# Altium schematic symbol library lib_raspberry.SchLib: 5 symbols
Pins are listed as number, name and electrical type; pins without a type are passive.

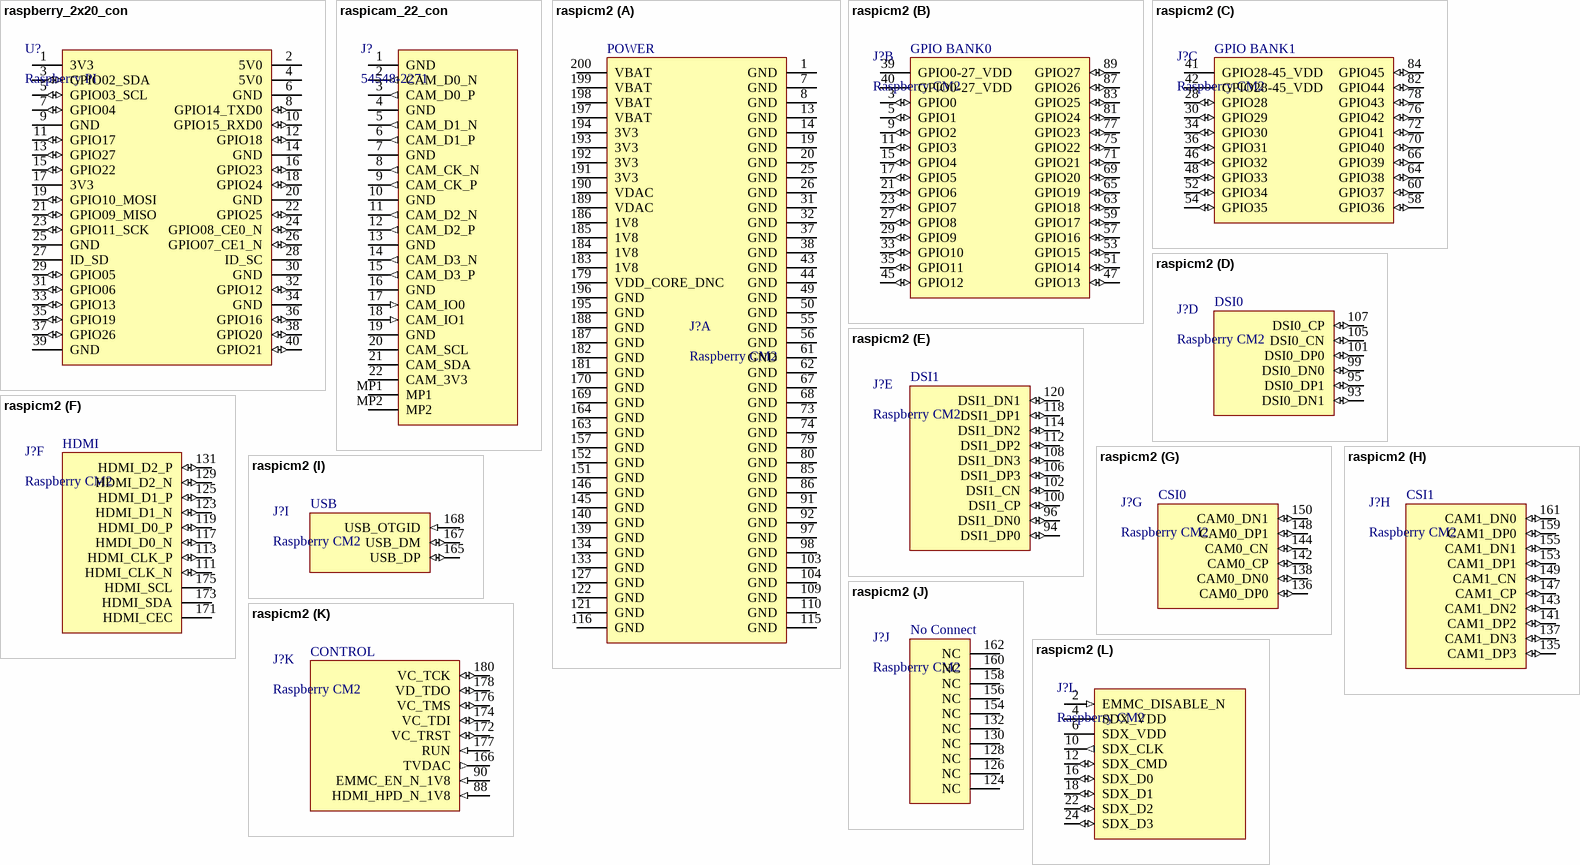
[diagram p0: symbols raspberry_2x20_con to raspicm2]

## raspberry_2x20_con
designator U?, comment Raspberry PI
Raspberry PI 2x20 connector
footprint raspi_male_con
pins: 1 3V3 (power), 2 5V0 (power), 3 GPIO02_SDA (io), 4 5V0 (power), 5 GPIO03_SCL (io), 6 GND (power), 7 GPIO04 (io), 8 GPIO14_TXD0 (io), 9 GND (power), 10 GPIO15_RXD0 (io), 11 GPIO17 (io), 12 GPIO18 (io), 13 GPIO27 (io), 14 GND (power), 15 GPIO22 (io), 16 GPIO23 (io), 17 3V3 (power), 18 GPIO24 (io), 19 GPIO10_MOSI (io), 20 GND (power), 21 GPIO09_MISO (io), 22 GPIO25 (io), 23 GPIO11_SCK (io), 24 GPIO08_CE0_N (io), 25 GND (power), 26 GPIO07_CE1_N (io), 27 ID_SD (oc), 28 ID_SC (oc), 29 GPIO05 (io), 30 GND (power), 31 GPIO06 (io), 32 GPIO12 (io), 33 GPIO13 (io), 34 GND (power), 35 GPIO19 (io), 36 GPIO16 (io), 37 GPIO26 (io), 38 GPIO20 (io), 39 GND (power), 40 GPIO21 (io)

## raspicam_22_con
designator J?, comment 54548-2271
0.5 mm Pitch Easy-On(TM) Type FPC Connector, 1.2 mm Mated Height, Right Angle, ZIF, SMT, Bottom Contact, 22 Circuits, -20 to 85 degC, ELV and RoHS Compliant, Tape and Reel; Manufacturer: Molex; Circuits (Loaded): 22; Stackable: No; Material - Plating Termination: Tin; PCB Retention: Yes; Entry Angle: 90degrees Angle; Material - Plating Mating: Gold; Current (Max per Contact): 0.5A; Material - Metal: Phosphor Bronze; Voltage (Max): 50V; Mated Height: 1.20mm; Pitch - Mating Interface: 0.50mm; Durability (mating cycles max): 20; PackageVersion: Rev. N, 06/2008; PackageDescription: 22-Lead FPC Connector, Pitch 0.5 mm; PackageReference: 54548-2271; ComponentLink2Description: Datasheet; PartNumber: 54548-2271; ComponentLink3URL: http://www.molex.com/pdm_docs/sd/545482171_sd.pdf; Contact Position: Bottom; Packing: Tape and Reel; ComponentLink1URL: http://www.molex.com/molex/index.jsp; Mounting Technology: Surface Mount; ComponentLink3Description: Package Specification; PCB Locator: No; ComponentLink2URL: http://www.molex.com/webdocs/datasheets/pdf/en-us/0545482271_FFC_FPC_CONNECTORS.pdf; Orientation: Right Angle; Number of Rows: 1; RoHS: TRUE; Polarized to PCB: Yes; ComponentLink1Description: Manufacturer URL
footprint MOLX-54548-2271 (FPC Connector, 22-Leads, Right Angle, Pitch 0.5 mm, Mated Height 1.2 mm, SMT)
pins: 1 GND (power), 2 CAM_D0_N (out), 3 CAM_D0_P (out), 4 GND (power), 5 CAM_D1_N (out), 6 CAM_D1_P (out), 7 GND (power), 8 CAM_CK_N (out), 9 CAM_CK_P (out), 10 GND (power), 11 CAM_D2_N (out), 12 CAM_D2_P (out), 13 GND (power), 14 CAM_D3_N (out), 15 CAM_D3_P (out), 16 GND (power), 17 CAM_IO0 (in), 18 CAM_IO1 (in), 19 GND (power), 20 CAM_SCL (oc), 21 CAM_SDA (oc), 22 CAM_3V3 (power), MP1, MP2

## raspicm2
designator J?, comment Raspberry CM2
footprint raspi_cm3
part A pins: 1 GND (power), 7 GND (power), 8 GND (power), 13 GND (power), 14 GND (power), 19 GND (power), 20 GND (power), 25 GND (power), 26 GND (power), 31 GND (power), 32 GND (power), 37 GND (power), 38 GND (power), 43 GND (power), 44 GND (power), 49 GND (power), 50 GND (power), 55 GND (power), 56 GND (power), 61 GND (power), 62 GND (power), 67 GND (power), 68 GND (power), 73 GND (power), 74 GND (power), 79 GND (power), 80 GND (power), 85 GND (power), 86 GND (power), 91 GND (power), 92 GND (power), 97 GND (power), 98 GND (power), 103 GND (power), 104 GND (power), 109 GND (power), 110 GND (power), 115 GND (power), 116 GND (power), 121 GND (power), 122 GND (power), 127 GND (power), 133 GND (power), 134 GND (power), 139 GND (power), 140 GND (power), 145 GND (power), 146 GND (power), 151 GND (power), 152 GND (power), 157 GND (power), 163 GND (power), 164 GND (power), 169 GND (power), 170 GND (power), 179 VDD_CORE_DNC (power), 181 GND (power), 182 GND (power), 183 1V8 (power), 184 1V8 (power), 185 1V8 (power), 186 1V8 (power), 187 GND (power), 188 GND (power), 189 VDAC (power), 190 VDAC (power), 191 3V3 (power), 192 3V3 (power), 193 3V3 (power), 194 3V3 (power), 195 GND (power), 196 GND (power), 197 VBAT (power), 198 VBAT (power), 199 VBAT (power), 200 VBAT (power)
part B pins: 3 GPIO0 (io), 5 GPIO1 (io), 9 GPIO2 (io), 11 GPIO3 (io), 15 GPIO4 (io), 17 GPIO5 (io), 21 GPIO6 (io), 23 GPIO7 (io), 27 GPIO8 (io), 29 GPIO9 (io), 33 GPIO10 (io), 35 GPIO11 (io), 39 GPIO0-27_VDD (power), 40 GPIO0-27_VDD (power), 45 GPIO12 (io), 47 GPIO13 (io), 51 GPIO14 (io), 53 GPIO15 (io), 57 GPIO16 (io), 59 GPIO17 (io), 63 GPIO18 (io), 65 GPIO19 (io), 69 GPIO20 (io), 71 GPIO21 (io), 75 GPIO22 (io), 77 GPIO23 (io), 81 GPIO24 (io), 83 GPIO25 (io), 87 GPIO26 (io), 89 GPIO27 (io)
part C pins: 28 GPIO28 (io), 30 GPIO29 (io), 34 GPIO30 (io), 36 GPIO31 (io), 41 GPIO28-45_VDD (power), 42 GPIO28-45_VDD (power), 46 GPIO32 (io), 48 GPIO33 (io), 52 GPIO34 (io), 54 GPIO35 (io), 58 GPIO36 (io), 60 GPIO37 (io), 64 GPIO38 (io), 66 GPIO39 (io), 70 GPIO40 (io), 72 GPIO41 (io), 76 GPIO42 (io), 78 GPIO43 (io), 82 GPIO44 (io), 84 GPIO45 (io)
part D pins: 93 DSI0_DN1 (io), 95 DSI0_DP1 (io), 99 DSI0_DN0 (io), 101 DSI0_DP0 (io), 105 DSI0_CN (io), 107 DSI0_CP (io)
part E pins: 94 DSI1_DP0 (io), 96 DSI1_DN0 (io), 100 DSI1_CP (io), 102 DSI1_CN (io), 106 DSI1_DP3 (io), 108 DSI1_DN3 (io), 112 DSI1_DP2 (io), 114 DSI1_DN2 (io), 118 DSI1_DP1 (io), 120 DSI1_DN1 (io)
part F pins: 111 HDMI_CLK_N (io), 113 HDMI_CLK_P (io), 117 HMDI_D0_N (io), 119 HDMI_D0_P (io), 123 HDMI_D1_N (io), 125 HDMI_D1_P (io), 129 HDMI_D2_N (io), 131 HDMI_D2_P (io), 171 HDMI_CEC (oc), 173 HDMI_SDA (oc), 175 HDMI_SCL (oc)
part G pins: 136 CAM0_DP0 (io), 138 CAM0_DN0 (io), 142 CAM0_CP (io), 144 CAM0_CN (io), 148 CAM0_DP1 (io), 150 CAM0_DN1 (io)
part H pins: 135 CAM1_DP3 (io), 137 CAM1_DN3 (io), 141 CAM1_DP2 (io), 143 CAM1_DN2 (io), 147 CAM1_CP (io), 149 CAM1_CN (io), 153 CAM1_DP1 (io), 155 CAM1_DN1 (io), 159 CAM1_DP0 (io), 161 CAM1_DN0 (io)
part I pins: 165 USB_DP (io), 167 USB_DM (io), 168 USB_OTGID (in)
part J pins: 124 NC, 126 NC, 128 NC, 130 NC, 132 NC, 154 NC, 156 NC, 158 NC, 160 NC, 162 NC
part K pins: 88 HDMI_HPD_N_1V8 (in), 90 EMMC_EN_N_1V8 (in), 166 TVDAC (out), 172 VC_TRST (io), 174 VC_TDI (io), 176 VC_TMS (io), 177 RUN (in), 178 VD_TDO (io), 180 VC_TCK (io)
part L pins: 2 EMMC_DISABLE_N (in), 4 SDX_VDD (power), 6 SDX_VDD (power), 10 SDX_CLK (out), 12 SDX_CMD (io), 16 SDX_D0 (io), 18 SDX_D1 (io), 22 SDX_D2 (io), 24 SDX_D3 (io)
part A text: POWER
part B text: GPIO BANK0
part C text: GPIO BANK1
part D text: DSI0
part E text: DSI1
part F text: HDMI
part G text: CSI0
part H text: CSI1
part I text: USB
part J text: No Connect
part K text: CONTROL

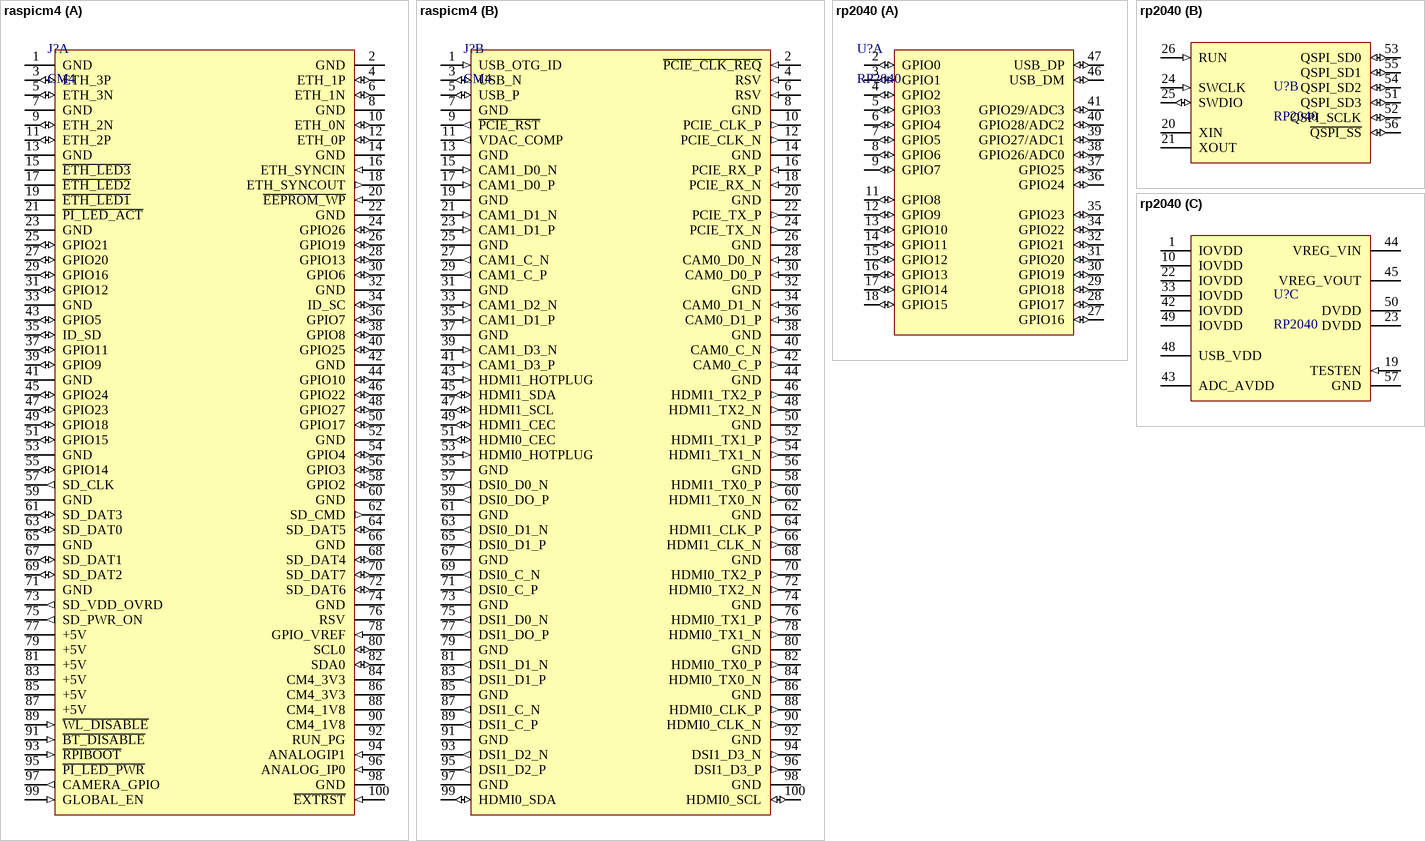
[diagram p1: symbols raspicm4 to rp2040]

## raspicm4
designator J?, comment CM4
footprint rpi_cm4
part A pins: 1 GND (power), 2 GND (power), 3 ETH_3P (io), 4 ETH_1P (io), 5 ETH_3N (io), 6 ETH_1N (io), 7 GND (power), 8 GND (power), 9 ETH_2N (io), 10 ETH_0N (io), 11 ETH_2P (io), 12 ETH_0P (io), 13 GND (power), 14 GND (power), 15 ~{ETH_LED3} (oc), 16 ETH_SYNCIN (in), 17 ~{ETH_LED2} (oc), 18 ETH_SYNCOUT (out), 19 ~{ETH_LED1} (oc), 20 ~{EEPROM_WP} (in), 21 ~{PI_LED_ACT} (oc), 22 GND (power), 23 GND (power), 24 GPIO26 (io), 25 GPIO21 (io), 26 GPIO19 (io), 27 GPIO20 (io), 28 GPIO13 (io), 29 GPIO16 (io), 30 GPIO6 (io), 31 GPIO12 (io), 32 GND (power), 33 GND (power), 34 ID_SC (io), 35 ID_SD (io), 36 GPIO7 (io), 37 GPIO11 (io), 38 GPIO8 (io), 39 GPIO9 (io), 40 GPIO25 (io), 41 GND (power), 42 GND (power), 43 GPIO5 (io), 44 GPIO10 (io), 45 GPIO24 (io), 46 GPIO22 (io), 47 GPIO23 (io), 48 GPIO27 (io), 49 GPIO18 (io), 50 GPIO17 (io), 51 GPIO15 (io), 52 GND (power), 53 GND (power), 54 GPIO4 (io), 55 GPIO14 (io), 56 GPIO3 (io), 57 SD_CLK (out), 58 GPIO2 (io), 59 GND (power), 60 GND (power), 61 SD_DAT3 (io), 62 SD_CMD (out), 63 SD_DAT0 (io), 64 SD_DAT5 (io), 65 GND (power), 66 GND (power), 67 SD_DAT1 (io), 68 SD_DAT4 (io), 69 SD_DAT2 (io), 70 SD_DAT7 (io), 71 GND (power), 72 SD_DAT6 (io), 73 SD_VDD_OVRD (out), 74 GND (power), 75 SD_PWR_ON (out), 76 RSV, 77 +5V (power), 78 GPIO_VREF (in), 79 +5V (power), 80 SCL0 (io), 81 +5V (power), 82 SDA0 (io), 83 +5V (power), 84 CM4_3V3 (power), 85 +5V (power), 86 CM4_3V3 (power), 87 +5V (power), 88 CM4_1V8 (power), 89 ~{WL_DISABLE} (in), 90 CM4_1V8 (power), 91 ~{BT_DISABLE} (in), 92 RUN_PG (oc), 93 ~{RPIBOOT} (in), 94 ANALOGIP1 (in), 95 ~{PI_LED_PWR} (oc), 96 ANALOG_IP0 (in), 97 CAMERA_GPIO (out), 98 GND (power), 99 GLOBAL_EN (in), 100 ~{EXTRST} (in)
part B pins: 1 USB_OTG_ID (in), 2 ~{PCIE_CLK_REQ} (in), 3 USB_N (io), 4 RSV (in), 5 USB_P (io), 6 RSV (in), 7 GND (power), 8 GND (power), 9 ~{PCIE_RST} (out), 10 PCIE_CLK_P (out), 11 VDAC_COMP (out), 12 PCIE_CLK_N (out), 13 GND (power), 14 GND (power), 15 CAM1_D0_N (in), 16 PCIE_RX_P (in), 17 CAM1_D0_P (in), 18 PCIE_RX_N (in), 19 GND (power), 20 GND (power), 21 CAM1_D1_N (in), 22 PCIE_TX_P (out), 23 CAM1_D1_P (in), 24 PCIE_TX_N (out), 25 GND (power), 26 GND (power), 27 CAM1_C_N (out), 28 CAM0_D0_N (in), 29 CAM1_C_P (out), 30 CAM0_D0_P (in), 31 GND (power), 32 GND (power), 33 CAM1_D2_N (in), 34 CAM0_D1_N (in), 35 CAM1_D1_P (in), 36 CAM0_D1_P (in), 37 GND (power), 38 GND (power), 39 CAM1_D3_N (in), 40 CAM0_C_N (out), 41 CAM1_D3_P (in), 42 CAM0_C_P (out), 43 HDMI1_HOTPLUG (in), 44 GND (power), 45 HDMI1_SDA (io), 46 HDMI1_TX2_P (out), 47 HDMI1_SCL (io), 48 HDMI1_TX2_N (out), 49 HDMI1_CEC (io), 50 GND (power), 51 HDMI0_CEC (io), 52 HDMI1_TX1_P (out), 53 HDMI0_HOTPLUG (in), 54 HDMI1_TX1_N (out), 55 GND (power), 56 GND (power), 57 DSI0_D0_N (out), 58 HDMI1_TX0_P (out), 59 DSI0_DO_P (out), 60 HDMI1_TX0_N (out), 61 GND (power), 62 GND (power), 63 DSI0_D1_N (out), 64 HDMI1_CLK_P (out), 65 DSI0_D1_P (out), 66 HDMI1_CLK_N (out), 67 GND (power), 68 GND (power), 69 DSI0_C_N (out), 70 HDMI0_TX2_P (out), 71 DSI0_C_P (out), 72 HDMI0_TX2_N (out), 73 GND (power), 74 GND (power), 75 DSI1_D0_N (out), 76 HDMI0_TX1_P (out), 77 DSI1_DO_P (out), 78 HDMI0_TX1_N (out), 79 GND (power), 80 GND (power), 81 DSI1_D1_N (out), 82 HDMI0_TX0_P (out), 83 DSI1_D1_P (out), 84 HDMI0_TX0_N (out), 85 GND (power), 86 GND (power), 87 DSI1_C_N (out), 88 HDMI0_CLK_P (out), 89 DSI1_C_P (out), 90 HDMI0_CLK_N (out), 91 GND (power), 92 GND (power), 93 DSI1_D2_N (out), 94 DSI1_D3_N (out), 95 DSI1_D2_P (out), 96 DSI1_D3_P (out), 97 GND (power), 98 GND (power), 99 HDMI0_SDA (io), 100 HDMI0_SCL (io)

## rp2040
designator U?, comment RP2040
A microcontroller by Raspberry Pi; ComponentLink1Description: Datasheet; ComponentLink1URL: https://datasheets.raspberrypi.com/rp2040/rp2040-datasheet.pdf
footprint QFN40P700X700X90_HS-57N_RP2040 (QFN, 56-Leads, Body 7.00x7.00mm, Pitch 0.40mm, Thermal Pad 3.20x3.20mm, IPC Medium Density)
part A pins: 2 GPIO0 (io), 3 GPIO1 (io), 4 GPIO2 (io), 5 GPIO3 (io), 6 GPIO4 (io), 7 GPIO5 (io), 8 GPIO6 (io), 9 GPIO7 (io), 11 GPIO8 (io), 12 GPIO9 (io), 13 GPIO10 (io), 14 GPIO11 (io), 15 GPIO12 (io), 16 GPIO13 (io), 17 GPIO14 (io), 18 GPIO15 (io), 27 GPIO16 (io), 28 GPIO17 (io), 29 GPIO18 (io), 30 GPIO19 (io), 31 GPIO20 (io), 32 GPIO21 (io), 34 GPIO22 (io), 35 GPIO23 (io), 36 GPIO24 (io), 37 GPIO25 (io), 38 GPIO26/ADC0 (io), 39 GPIO27/ADC1 (io), 40 GPIO28/ADC2 (io), 41 GPIO29/ADC3 (io), 46 USB_DM (io), 47 USB_DP (io)
part B pins: 20 XIN, 21 XOUT, 24 SWCLK (in), 25 SWDIO (io), 26 RUN (in), 51 QSPI_SD3 (io), 52 QSPI_SCLK (io), 53 QSPI_SD0 (io), 54 QSPI_SD2 (io), 55 QSPI_SD1 (io), 56 ~{QSPI_SS} (io)
part C pins: 1 IOVDD (power), 10 IOVDD (power), 19 TESTEN (in), 22 IOVDD (power), 23 DVDD (power), 33 IOVDD (power), 42 IOVDD (power), 43 ADC_AVDD (power), 44 VREG_VIN (power), 45 VREG_VOUT (power), 48 USB_VDD (power), 49 IOVDD (power), 50 DVDD (power), 57 GND (power)